# EAGLE library part LA-401*D (library led-7-segment)
Single Digit LED Numeric Display (anode common) Source: ROHM .. la-1401dn.pdf
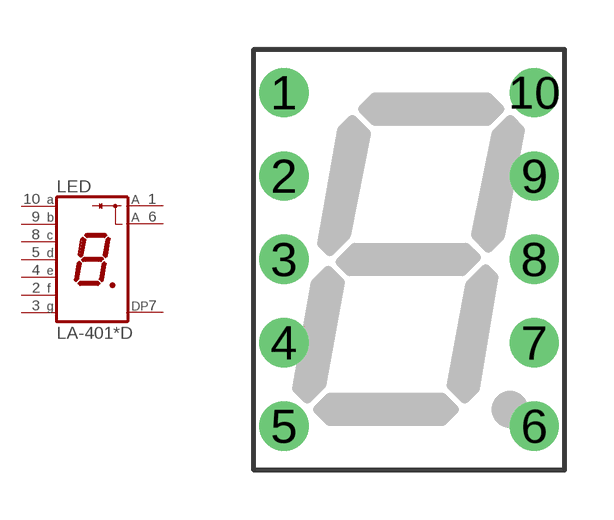
[diagram p0: symbol with the pads of LA-401; footprint LA-401]

Designator prefix LED

## LA-401AD (OC_FARNELL: unknown; OC_NEWARK: unknown), LA-401BD (OC_FARNELL: unknown; OC_NEWARK: unknown), LA-401ED (OC_FARNELL: unknown; OC_NEWARK: unknown), LA-401MD (OC_FARNELL: unknown; OC_NEWARK: unknown), LA-401VD (OC_FARNELL: unknown; OC_NEWARK: unknown), LA-401XD (OC_FARNELL: unknown; OC_NEWARK: unknown)  [LA-401]
1  A  pas
2  F  pas
3  G  pas
4  E  pas
5  D  pas
6  A  pas
7  DP  pas
8  C  pas
9  B  pas
10  A  pas

## Footprint LA-401 (pad centres in mm)
Single Digit LED Numeric Display 10.16 mm Source: ROHM .. la-401dn.pdf
drill 0.9 pad 1.5 round: 1 -3.81,5.08; 2 -3.81,2.54; 3 -3.81,0; 4 -3.81,-2.54; 5 -3.81,-5.08; 6 3.81,-5.08; 7 3.81,-2.54; 8 3.81,0; 9 3.81,2.54; 10 3.81,5.08